# EAGLE library part 74*574 (library E3VB_ISI)
8 bit D-FF Shift Register Parallel 8 bit shift register
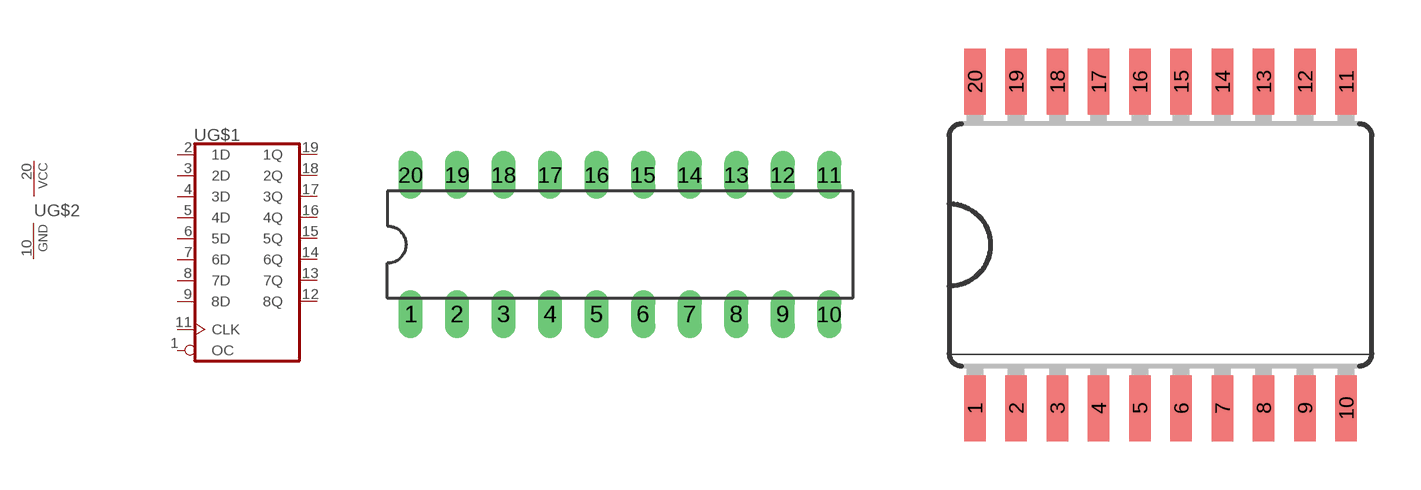
[diagram p0: symbol with the pads of 20-DIP; footprints 20-DIP, SO20W]

Designator prefix U; gates G$1=74*574 G$2=PWRN

## 74574, 74AC574  [20-DIP]
1  G$1:OC  in
2  G$1:1D  in
3  G$1:2D  in
4  G$1:3D  in
5  G$1:4D  in
6  G$1:5D  in
7  G$1:6D  in
8  G$1:7D  in
9  G$1:8D  in
10  G$2:GND  pwr
11  G$1:CLK  in
12  G$1:8Q  hiz
13  G$1:7Q  hiz
14  G$1:6Q  hiz
15  G$1:5Q  hiz
16  G$1:4Q  hiz
17  G$1:3Q  hiz
18  G$1:2Q  hiz
19  G$1:1Q  hiz
20  G$2:VCC  pwr

## 74574P  [SO20W]
Pads as for 20-DIP

## Footprint 20-DIP (pad centres in mm)
drill 0.813 long: 1 -10.16,-3.81; 2 -7.62,-3.81; 3 -5.08,-3.81; 4 -2.54,-3.81; 5 0,-3.81; 6 2.54,-3.81; 7 5.08,-3.81; 8 7.62,-3.81; 9 10.16,-3.81; 10 12.7,-3.81; 11 12.7,3.81; 12 10.16,3.81; 13 7.62,3.81; 14 5.08,3.81; 15 2.54,3.81; 16 0,3.81; 17 -2.54,3.81; 18 -5.08,3.81; 19 -7.62,3.81; 20 -10.16,3.81

## Footprint SO20W (pad centres in mm)
smd 0.66 x 2.032: 1 -5.615,-5.029; 2 -4.345,-5.029; 3 -3.075,-5.029; 4 -1.805,-5.029; 5 -0.535,-5.029; 6 0.735,-5.029; 7 2.005,-5.029; 8 3.275,-5.029; 9 4.545,-5.029; 10 5.815,-5.029; 11 5.815,5.029; 12 4.545,5.029; 13 3.275,5.029; 14 2.005,5.029; 15 0.735,5.029; 16 -0.535,5.029; 17 -1.805,5.029; 18 -3.075,5.029; 19 -4.345,5.029; 20 -5.615,5.029